# EAGLE library part MA06-1W (library con-lstb)
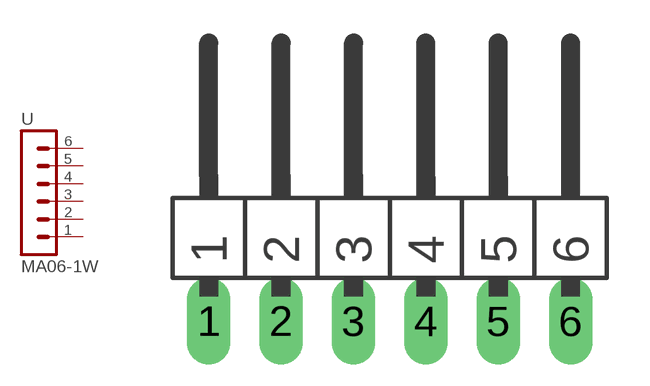
[diagram p37: symbol with the pads of MA06-1W; footprint MA06-1W]

Designator prefix -

## MA06-1W  [MA06-1W]
1  1  pas
2  2  pas
3  3  pas
4  4  pas
5  5  pas
6  6  pas

## Footprint MA06-1W (pad centres in mm)
PIN HEADER
drill 1.016 pad 1.422 long: 1 -6.35,0; 2 -3.81,0; 3 -1.27,0; 4 1.27,0; 5 3.81,0; 6 6.35,0